# Altium footprint library PCB - OPTOISOLATOR - TOSHIBA TLP290.PcbLib: 1 footprints
Each footprint in its own frame and in the unit in brackets; x right, y up, seen from the top. Pads: shape width x height; smd on the part's side, far side on the other; paste and mask are expansions set on the pad; w line width, h text height; cw(c..) or ccw(c..) is an arc to the next point about the centre after c.
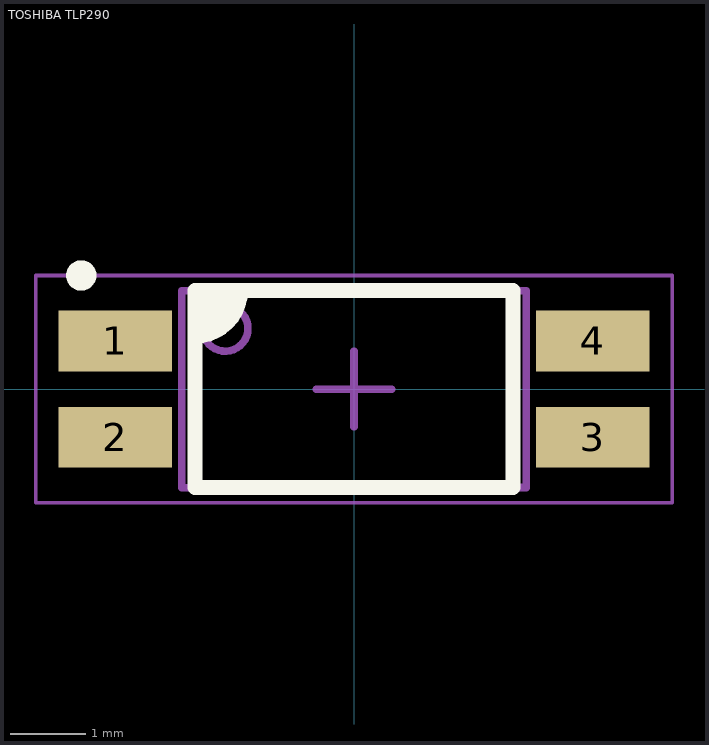
[diagram p0: the footprint, top view; thin cyan lines are the x and y axes]

## TOSHIBA TLP290 [mm] "Optoisolator   Optoisolator Transistor Output 3750Vrms 1 Channel, 1.27mm Pitch, 4.55x2.6mm Body, 4-SOIC Package"
height 2.3
pads (4):
  rect 1.5x0.8 smd: 1(-3.15,0.635) 2(-3.15,-0.635) 3(3.15,-0.635) 4(3.15,0.635)
Top Overlay:
  circle w0.2: c-3.6,1.5 r0.1
  region: -2.1,1.299 -2.1,0.701 -1.981,0.701 -1.76,0.792 -1.592,0.96 -1.5,1.18 -1.5,1.299
  lines w0.2: -2.1,0.701 -2.099,0.701 ccw(c-2.099,1.299) -1.5,1.299 ; -2.1,0.9 ccw(c-1.95,1.15) -1.7,1.3 ; -2.1,-1.299 -2.1,1.299 0,1.299 2.1,1.299 2.1,-1.299 0,-1.299 -2.1,-1.299
Mechanical 13:
  circle w0.1: c-1.7,0.8 r0.3
  lines w0.1: 0,-1.3 -2.275,-1.3 -2.275,1.299 0,1.299 ; 0,-1.299 2.275,-1.299 2.275,1.3 0,1.3
Mechanical 15 (Mech15):
  lines w0.05: -4.2,-1.5 4.2,-1.5 4.2,1.5 -4.2,1.5 -4.2,-1.5
  lines w0.1: -0.5,0 0,0 ; 0,-0.5 0,0 ; 0,0.5 0,0 ; 0.5,0 0,0
3D body "Toshiba -SOIC-4 v3.step": height 2.3, standoff 0, extent -3.5,-1.299 3.5,1.299